# EAGLE library part MC14503BCPG (library on-semiconductor-01)
Hex Non-Inverting 3-State Buffer
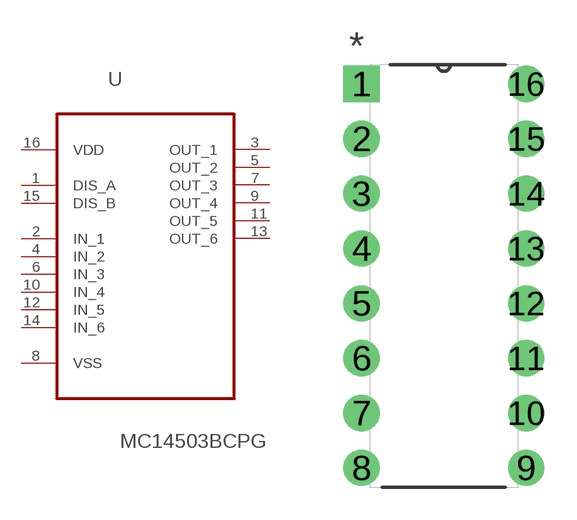
[diagram p272: symbol with the pads of DIP254P762X444-16; footprint DIP254P762X444-16]

Designator prefix U

## MC14503BCPG (MPN: MC14503BCPG; OC_FARNELL: 9664769; OC_NEWARK: 45J1100; PACKAGE: PDIP-16; SUPPLIER: On semiconductors)  [DIP254P762X444-16]
1  DIS_A  in
2  IN_1  in
3  OUT_1  out
4  IN_2  in
5  OUT_2  out
6  IN_3  in
7  OUT_3  out
8  VSS  pwr
9  OUT_4  out
10  IN_4  in
11  OUT_5  out
12  IN_5  in
13  OUT_6  out
14  IN_6  in
15  DIS_B  in
16  VDD  pwr

## Footprint DIP254P762X444-16 (pad centres in mm)
drill 1.118 square: 1 -7.62,17.78
drill 1.118: 2 -7.62,15.24; 3 -7.62,12.7; 4 -7.62,10.16; 5 -7.62,7.62; 6 -7.62,5.08; 7 -7.62,2.54; 8 -7.62,0; 9 0,0; 10 0,2.54; 11 0,5.08; 12 0,7.62; 13 0,10.16; 14 0,12.7; 15 0,15.24; 16 0,17.78